# EAGLE library part MPQ20051DQ-AEC1-LF-P (library MPQ20051DQ-AEC1-LF-P)
LDO Voltage Regulators Auto Grade,Low Noise PSRR1A Linear Rgltr Source: Datasheet <https://www.monolithicpower.com/pub/media/document/MPQ20051_r1.0.pdf>
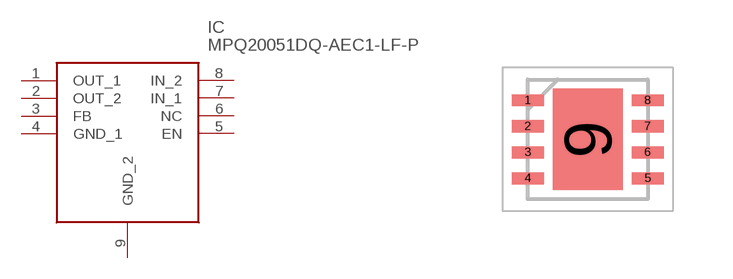
[diagram p0: symbol with the pads of SON65P300X300X100-9N; footprint SON65P300X300X100-9N]

Designator prefix IC

## MPQ20051DQ-AEC1-LF-P (Description: LDO Voltage Regulators Auto Grade,Low Noise PSRR1A Linear Rgltr; Height: 1mm; Manufacturer_Name: Monolithic Power Systems (MPS); Manufacturer_Part_Number: MPQ20051DQ-AEC1-LF-P; Mouser_Part_Number: 946-MP20051DQAEC1LFP; Mouser_Price-Stock: https://www.mouser.co.uk/ProductDetail/Monolithic-Power-Systems-MPS/MPQ20051DQ-AEC1-LF-P?qs=IW9Tsl75qsWIqwkY02mOMw%3D%3D)  [SON65P300X300X100-9N]
1  OUT_1
2  OUT_2
3  FB
4  GND_1
5  EN
6  NC  nc
7  IN_1
8  IN_2
9  GND_2

## Footprint SON65P300X300X100-9N (pad centres in mm)
MPQ20051DQ-AEC1-LF-P
smd 0.8 x 0.3: 1 -1.5,0.975; 2 -1.5,0.325; 3 -1.5,-0.325; 4 -1.5,-0.975; 5 1.5,-0.975; 6 1.5,-0.325; 7 1.5,0.325; 8 1.5,0.975
smd 1.75 x 2.55: 9 0,0